# Altium footprint library SOT95P290X145-5N.PcbLib: 2 footprints
Each footprint in its own frame and in the unit in brackets; x right, y up, seen from the top. Pads: shape width x height; smd on the part's side, far side on the other; paste and mask are expansions set on the pad; w line width, h text height; cw(c..) or ccw(c..) is an arc to the next point about the centre after c.
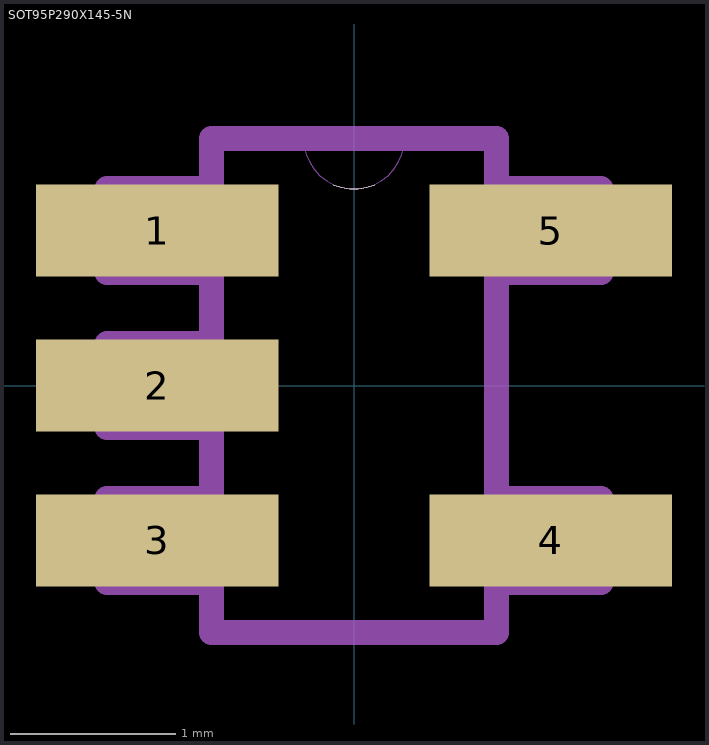
[diagram p0: the footprints below, top view; thin cyan lines are the x and y axes]

## PCBComponent_1 [mil]

## SOT95P290X145-5N [mil]
pads (5):
  rect 58x22 smd: 1(-47,37) 2(-47,0) 3(-47,-37) 4(47,-37) 5(47,37)
Top Overlay:
  lines w0: -5,48 ccw(c0,59.23) 5,48
Mechanical 1:
  lines w0: -12,59 ccw(c0,59) 12,59
  lines w6: -34,-47 -59,-47 -59,-27 -34,-27 ; -34,-47 -34,-27 ; -34,-47 -34,-59 34,-59 34,-47 ; -34,-27 -34,-10 ; -34,-10 -59,-10 -59,10 -34,10 ; -34,-10 -34,10 ; -34,10 -34,27 ; -34,27 -59,27 -59,47 -34,47 ; -34,27 -34,47 ; -34,47 -34,59 -12,59 12,59 34,59 34,47 ; 34,-47 59,-47 59,-27 34,-27 ; 34,-47 34,-27 ; 34,-27 34,27 ; 34,27 59,27 59,47 34,47 ; 34,27 34,47